# Altium footprint library XTAL_2.5x2.0.PcbLib: 1 footprints
Each footprint in its own frame and in the unit in brackets; x right, y up, seen from the top. Pads: shape width x height; smd on the part's side, far side on the other; paste and mask are expansions set on the pad; w line width, h text height; cw(c..) or ccw(c..) is an arc to the next point about the centre after c.
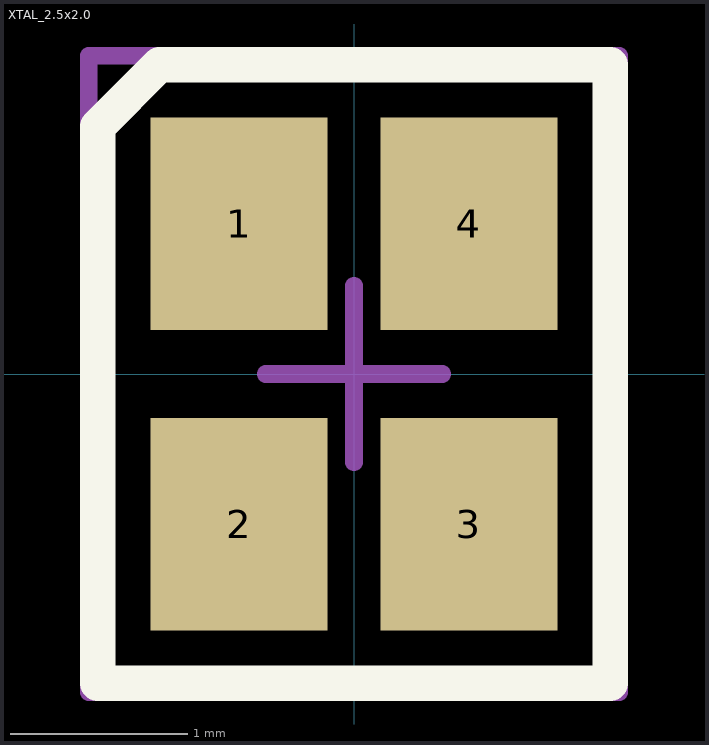
[diagram p0: the footprint, top view; thin cyan lines are the x and y axes]

## XTAL_2.5x2.0 [mm] "Crystal, 2.5x2.0, SMT, 4 pad"
height 0.5
pads (4):
  rect 1x1.2 smd mask+0.051: 1(-0.65,0.85) 2(-0.65,-0.85) 3(0.65,-0.85) 4(0.65,0.85)
Top Overlay:
  lines w0.2: -1.45,-1.75 1.45,-1.75 1.45,1.75 -1.1,1.75 -1.45,1.4 -1.45,-1.75
Mechanical 15:
  lines w0.1: -0.5,0 0.5,0 ; 0,-0.5 0,0.5 ; -1.5,-1.8 1.5,-1.8 1.5,1.8 -1.5,1.8 -1.5,-1.8
3D body: height 0.5, standoff 0.1, extent -1,-1.25 1,1.25
3D body: height 0.51, standoff 0.5, extent -0.85,0.901 -0.65,1.1